# Altium footprint library Wurth_Elektronik_Passive_rev16a.PCBLIB: 810 footprints (part 18 of 51)
Each footprint in its own frame and in the unit in brackets; x right, y up, seen from the top. Pads: shape width x height; smd on the part's side, far side on the other; paste and mask are expansions set on the pad; w line width, h text height; cw(c..) or ccw(c..) is an arc to the next point about the centre after c.
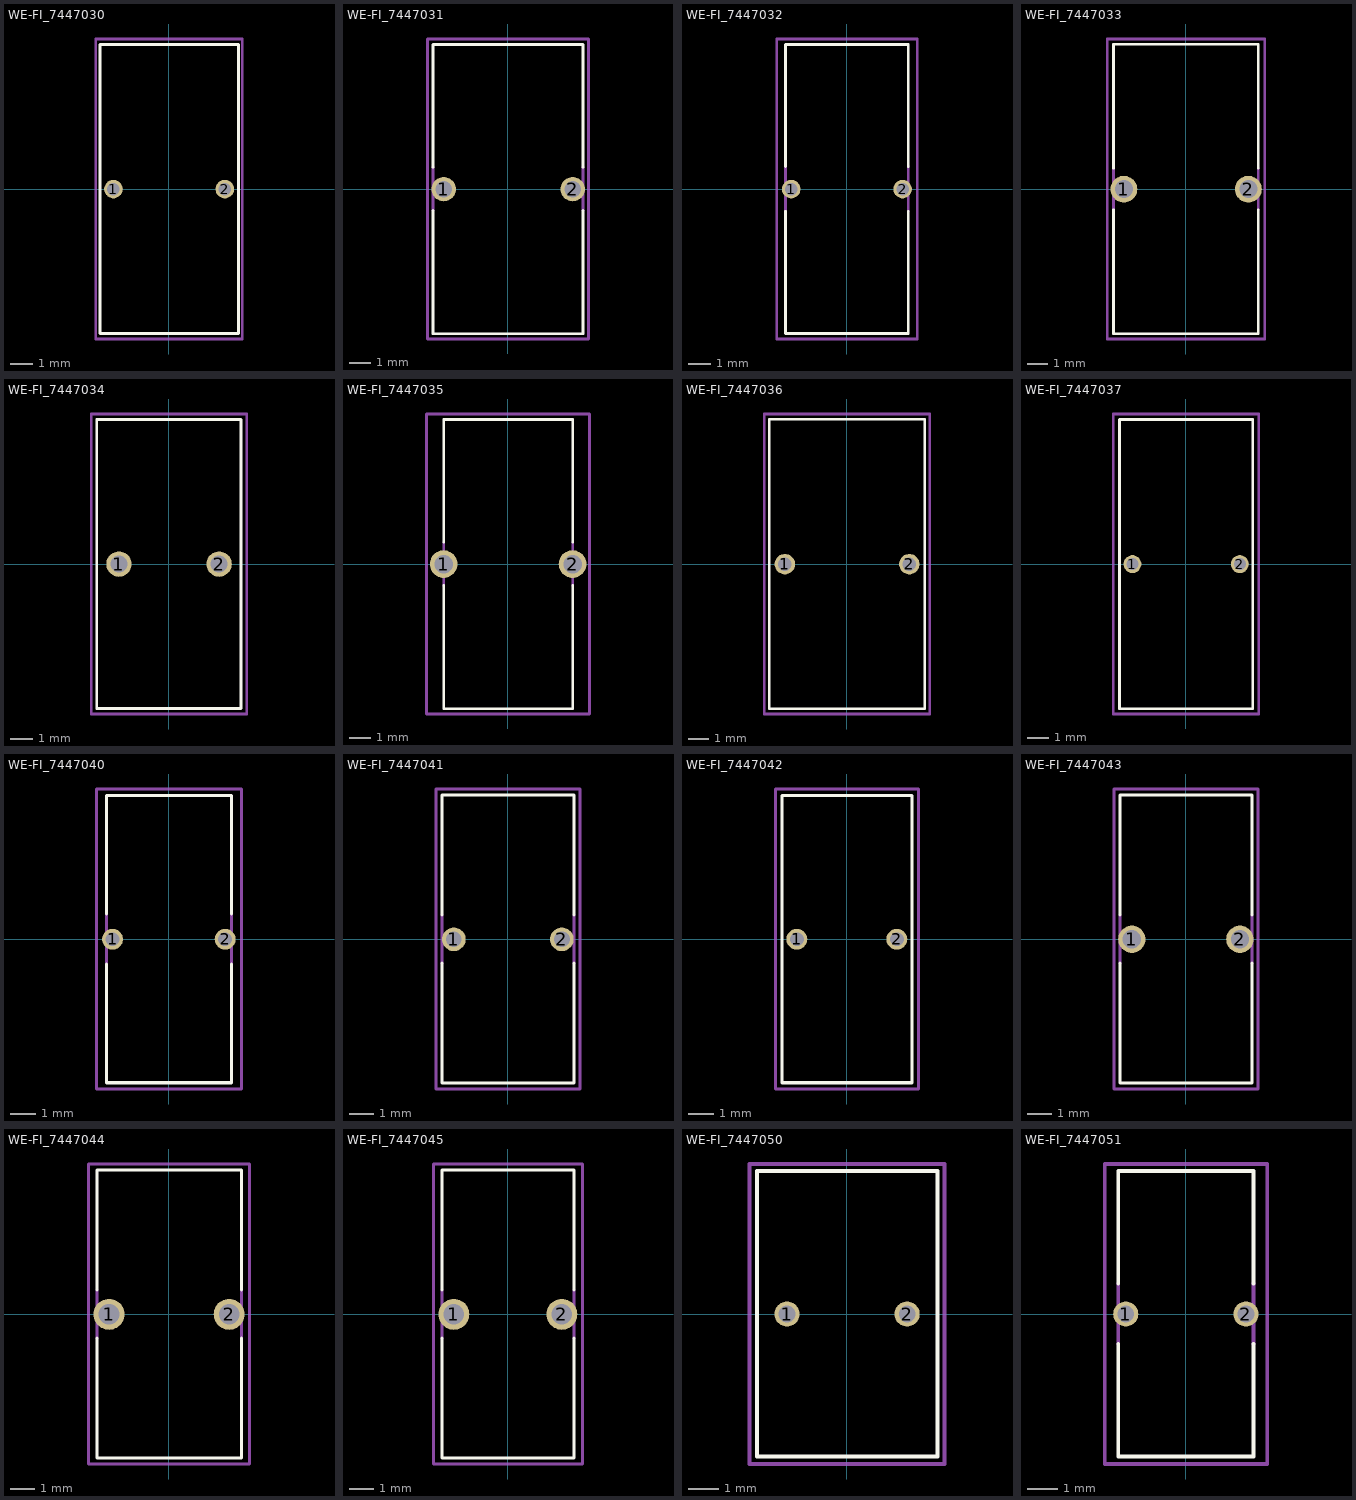
[diagram p17: the footprints below, top view; thin cyan lines are the x and y axes]

## WE-FI_7447030 [mil]
pads (2):
  round 33 hole 22: 1(-98.43,0) 2(99,0)
Top Overlay:
  lines w5: -122.05,-255.91 -122.05,256 123,256 123,-255.91 -122.05,-255.91
Mechanical 2:
  text ">NAME" at -118.11,266 h77.5
Mechanical 4:
  text ">VALUE" at -118.11,-315.75 h77.5
Mechanical 27:
  lines w5: -129.92,-265.75 -129.92,266 130,266 130,-265.75 -129.92,-265.75

## WE-FI_7447031 [mil]
pads (2):
  round 45 hole 30: 1(-118.11,0) 2(119,0)
Top Overlay:
  lines w5: -137.8,-39.37 -137.8,-265.75 138,-265.75 138,-39.37 ; -137.8,40 -137.8,266 138,266 138,40
Mechanical 2:
  text ">NAME" at -137.8,276 h77.5
Mechanical 4:
  text ">VALUE" at -137.8,-325.59 h77.5
Mechanical 16:
  lines w5: -137.8,-39.37 -137.8,40 ; 138,-39.37 138,40
Mechanical 27:
  lines w5: -147.64,-275.59 -147.64,276 148,276 148,-275.59 -147.64,-275.59

## WE-FI_7447032 [mil]
pads (2):
  round 33 hole 22: 1(-98.43,0) 2(99,0)
Top Overlay:
  lines w5: -108.27,-39.37 -108.27,-255.91 109,-255.91 109,-39.37 ; -108.27,40 -108.27,256 109,256 109,40
Mechanical 2:
  text ">NAME" at -108.27,266 h77.5
Mechanical 4:
  text ">VALUE" at -108.27,-315.75 h77.5
Mechanical 16:
  lines w5: -108.27,-39.37 -108.27,40 ; 109,-39.37 109,40
Mechanical 27:
  lines w5: -124.02,-265.75 -124.02,266 125,266 125,-265.75 -124.02,-265.75

## WE-FI_7447033 [mil]
pads (2):
  round 51 hole 34: 1(-118.11,0) 2(119,0)
Top Overlay:
  lines w5: -137.8,-39.37 -137.8,-275.59 138,-275.59 138,-39.37 ; -137.8,40 -137.8,276 138,276 138,40
Mechanical 2:
  text ">NAME" at -137.8,286 h77.5
Mechanical 4:
  text ">VALUE" at -137.8,-335.43 h77.5
Mechanical 16:
  lines w5: -137.8,-39.37 -137.8,40 ; 138,-39.37 138,40
Mechanical 27:
  lines w5: -149.61,-285.43 -149.61,286 150,286 150,-285.43 -149.61,-285.43

## WE-FI_7447034 [mil]
pads (2):
  round 45 hole 30: 1(-88.58,0) 2(89,0)
Top Overlay:
  lines w5: -127.95,-255.91 -127.95,256 128,256 128,-255.91 -127.95,-255.91
Mechanical 2:
  text ">NAME" at -127.95,266 h77.5
Mechanical 4:
  text ">VALUE" at -127.95,-315.75 h77.5
Mechanical 27:
  lines w5: -137.8,-265.75 -137.8,266 138,266 138,-265.75 -137.8,-265.75

## WE-FI_7447035 [mil]
pads (2):
  round 51 hole 34: 1(-118.11,0) 2(119,0)
Top Overlay:
  lines w5: -118.11,-39.37 -118.11,-265.75 119,-265.75 119,-39.37 ; -118.11,40 -118.11,266 119,266 119,40
Mechanical 2:
  text ">NAME" at -118.11,276 h77.5
Mechanical 4:
  text ">VALUE" at -118.11,-325.59 h77.5
Mechanical 16:
  lines w5: -118.11,-39.37 -118.11,40 ; 119,-39.37 119,40
Mechanical 27:
  lines w5: -149.61,-275.59 -149.61,276 150,276 150,-275.59 -149.61,-275.59

## WE-FI_7447036 [mil]
pads (2):
  round 39 hole 26: 1(-118.11,0) 2(119,0)
Top Overlay:
  lines w5: -147.64,-275.59 -147.64,276 148,276 148,-275.59 -147.64,-275.59
Mechanical 2:
  text ">NAME" at -147.64,286 h77.5
Mechanical 4:
  text ">VALUE" at -147.64,-335.43 h77.5
Mechanical 27:
  lines w5: -157.48,-285.43 -157.48,286 158,286 158,-285.43 -157.48,-285.43

## WE-FI_7447037 [mil]
pads (2):
  round 33 hole 22: 1(-98.43,0) 2(99,0)
Top Overlay:
  lines w5: -122.05,-265.75 -122.05,266 123,266 123,-265.75 -122.05,-265.75
Mechanical 2:
  text ">NAME" at -118.11,276 h77.5
Mechanical 4:
  text ">VALUE" at -118.11,-325.59 h77.5
Mechanical 27:
  lines w5: -133.86,-275.59 -133.86,276 134,276 134,-275.59 -133.86,-275.59

## WE-FI_7447040 [mil]
pads (2):
  round 33 hole 22: 1(-88.58,0) 2(89,0)
Top Overlay:
  lines w5: -98.43,-39.37 -98.43,-226.38 99,-226.38 99,-39.37 ; -98.43,40 -98.43,227 99,227 99,40
Mechanical 2:
  text ">NAME" at -98.43,237 h77.5
Mechanical 4:
  text ">VALUE" at -98.43,-286.22 h77.5
Mechanical 16:
  lines w5: -98.43,-39.37 -98.43,40 ; 99,-39.37 99,40
Mechanical 27:
  lines w5: -114.17,-236.22 -114.17,237 115,237 115,-236.22 -114.17,-236.22

## WE-FI_7447041 [mil]
pads (2):
  round 39 hole 26: 1(-88.58,0) 2(89,0)
Top Overlay:
  lines w5: -108.27,-39.37 -108.27,-236.22 109,-236.22 109,-39.37 ; -108.27,40 -108.27,237 109,237 109,40
Mechanical 2:
  text ">NAME" at -108.27,247 h77.5
Mechanical 4:
  text ">VALUE" at -108.27,-296.06 h77.5
Mechanical 16:
  lines w5: -108.27,-39.37 -108.27,40 ; 109,-39.37 109,40
Mechanical 27:
  lines w5: -118.11,-246.06 -118.11,247 119,247 119,-246.06 -118.11,-246.06

## WE-FI_7447042 [mil]
pads (2):
  round 33 hole 22: 1(-78.74,0) 2(79,0)
Top Overlay:
  lines w5: -102.36,-226.38 -102.36,227 103,227 103,-226.38 -102.36,-226.38
Mechanical 2:
  text ">NAME" at -98.43,237 h77.5
Mechanical 4:
  text ">VALUE" at -98.43,-286.22 h77.5
Mechanical 27:
  lines w5: -112.2,-236.22 -112.2,237 113,237 113,-236.22 -112.2,-236.22

## WE-FI_7447043 [mil]
pads (2):
  round 45 hole 30: 1(-88.58,0) 2(89,0)
Top Overlay:
  lines w5: -108.27,-39.37 -108.27,-236.22 109,-236.22 109,-39.37 ; -108.27,40 -108.27,237 109,237 109,40
Mechanical 2:
  text ">NAME" at -108.27,247 h77.5
Mechanical 4:
  text ">VALUE" at -108.27,-296.06 h77.5
Mechanical 16:
  lines w5: -108.27,-39.37 -108.27,40 ; 109,-39.37 109,40
Mechanical 27:
  lines w5: -118.11,-246.06 -118.11,247 119,247 119,-246.06 -118.11,-246.06

## WE-FI_7447044 [mil]
pads (2):
  round 51 hole 34: 1(-98.43,0) 2(99,0)
Top Overlay:
  lines w5: -118.11,-39.37 -118.11,-236.22 119,-236.22 119,-39.37 ; -118.11,40 -118.11,237 119,237 119,40
Mechanical 2:
  text ">NAME" at -118.11,247 h77.5
Mechanical 4:
  text ">VALUE" at -118.11,-296.06 h77.5
Mechanical 16:
  lines w5: -118.11,-39.37 -118.11,40 ; 119,-39.37 119,40
Mechanical 27:
  lines w5: -131.89,-246.06 -131.89,247 132,247 132,-246.06 -131.89,-246.06

## WE-FI_7447045 [mil]
pads (2):
  round 51 hole 34: 1(-88.58,0) 2(89,0)
Top Overlay:
  lines w5: -108.27,-39.37 -108.27,-236.22 109,-236.22 109,-39.37 ; -108.27,40 -108.27,237 109,237 109,40
Mechanical 2:
  text ">NAME" at -108.27,247 h77.5
Mechanical 4:
  text ">VALUE" at -108.27,-296.06 h77.5
Mechanical 16:
  lines w5: -108.27,-39.37 -108.27,40 ; 109,-39.37 109,40
Mechanical 27:
  lines w5: -122.05,-246.06 -122.05,247 123,247 123,-246.06 -122.05,-246.06

## WE-FI_7447050 [mil]
pads (2):
  round 33 hole 22: 1(-78.74,0) 2(79,0)
Top Overlay:
  lines w5: -118.11,-187.01 -118.11,188 119,188 119,-187.01 -118.11,-187.01
Mechanical 2:
  text ">NAME" at -118.11,197 h77.5
Mechanical 4:
  text ">VALUE" at -118.11,-246.85 h77.5
Mechanical 27:
  lines w5: -127.95,-196.85 -127.95,197 128,197 128,-196.85 -127.95,-196.85

## WE-FI_7447051 [mil]
pads (2):
  round 33 hole 22: 1(-78.74,0) 2(79,0)
Top Overlay:
  lines w5: -88.58,-39.37 -88.58,-187.01 89,-187.01 89,-39.37 ; -88.58,40 -88.58,188 89,188 89,40
Mechanical 2:
  text ">NAME" at -88.58,197 h77.5
Mechanical 4:
  text ">VALUE" at -88.58,-246.85 h77.5
Mechanical 16:
  lines w5: -88.58,-39.37 -88.58,40 ; 89,-39.37 89,40
Mechanical 27:
  lines w5: -106.3,-196.85 -106.3,197 107,197 107,-196.85 -106.3,-196.85